# Altium schematic symbol library Schlib3.SchLib: 10 symbols
Pins are listed as number, name and electrical type; pins without a type are passive.

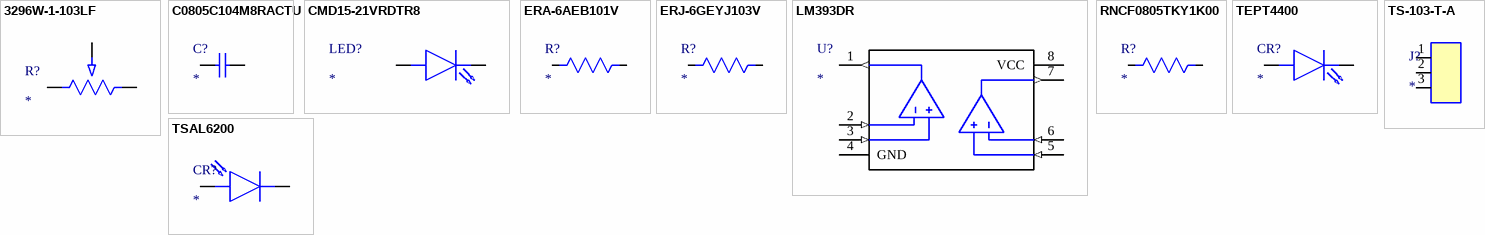
[diagram p0: symbols 3296W-1-103LF to TSAL6200]

## 3296W-1-103LF
designator R?
10 kOhms 0.5W, 1/2W PC Pins Through Hole Trimmer Potentiometer Cermet 25.0 Turn Top Adjustment; P/N: 3296W-1-103LF
footprint 3296W-1-103LF
pins: 1, 2, 3

## C0805C104M8RACTU
designator C?
CAP CER 0.1UF 10V X7R 0805; P/N: C0805C104M8RAC7800
footprint C0805C104M8RAC7800
pins: 1, 2

## CMD15-21VRDTR8
designator LED?
Red LED Indication - Discrete 1.7V 1206 (3216 Metric); P/N: CMD15-21VRD/TR8
footprint CMD15-21VRD/TR8
pins: 1, 2

## ERA-6AEB101V
designator R?
RES SMD 100 OHM 0.1% 1/8W 0805; P/N: ERA-6AEB101V
footprint RC0805N_PAN
pins: 1, 2

## ERJ-6GEYJ103V
designator R?
10 kOhms ±5% 0.125W, 1/8W Chip Resistor 0805 (2012 Metric) Automotive AEC-Q200 Thick Film; P/N: ERJ-6GEYJ103V
footprint ERJ-6GEYJ103V
pins: 1, 2

## LM393DR
designator U?
IC COMPARATOR 2 DIFF 8SOIC; P/N: LM393DR
footprint LM393DR
pins: 1 OUT1 (out), 2 1IN- (in), 3 1IN+ (in), 4 GND (power), 5 2IN+ (in), 6 2IN- (in), 7 OUT2 (out), 8 VCC (power)

## RNCF0805TKY1K00
designator R?
RES SMD 1K OHM 0.01% 1/8W 0805; P/N: RNCF0805TKY1K00
footprint RNCF0805TKY1K00
pins: 1, 2

## TEPT4400
designator CR?
Phototransistors 570nm Top View Radial; P/N: TEPT4400
footprint TEPT4400
pins: 1, 2

## TS-103-T-A
designator J?
No Description Available; Mfr_Name: Samtec Inc; RefDes: RefDes; Type: Type
footprint TS-103-T-A
pins: 1, 2, 3

## TSAL6200
designator CR?
Infrared (IR) Emitter 940nm 1.35V 100mA 40mW/sr @ 100mA 34° Radial, 5mm Dia (T 1 3/4); P/N: TSAL6200
footprint TSAL6200
pins: 1, 2